# EAGLE library part STM32F405OGY6 (library circuit_tree)
IC
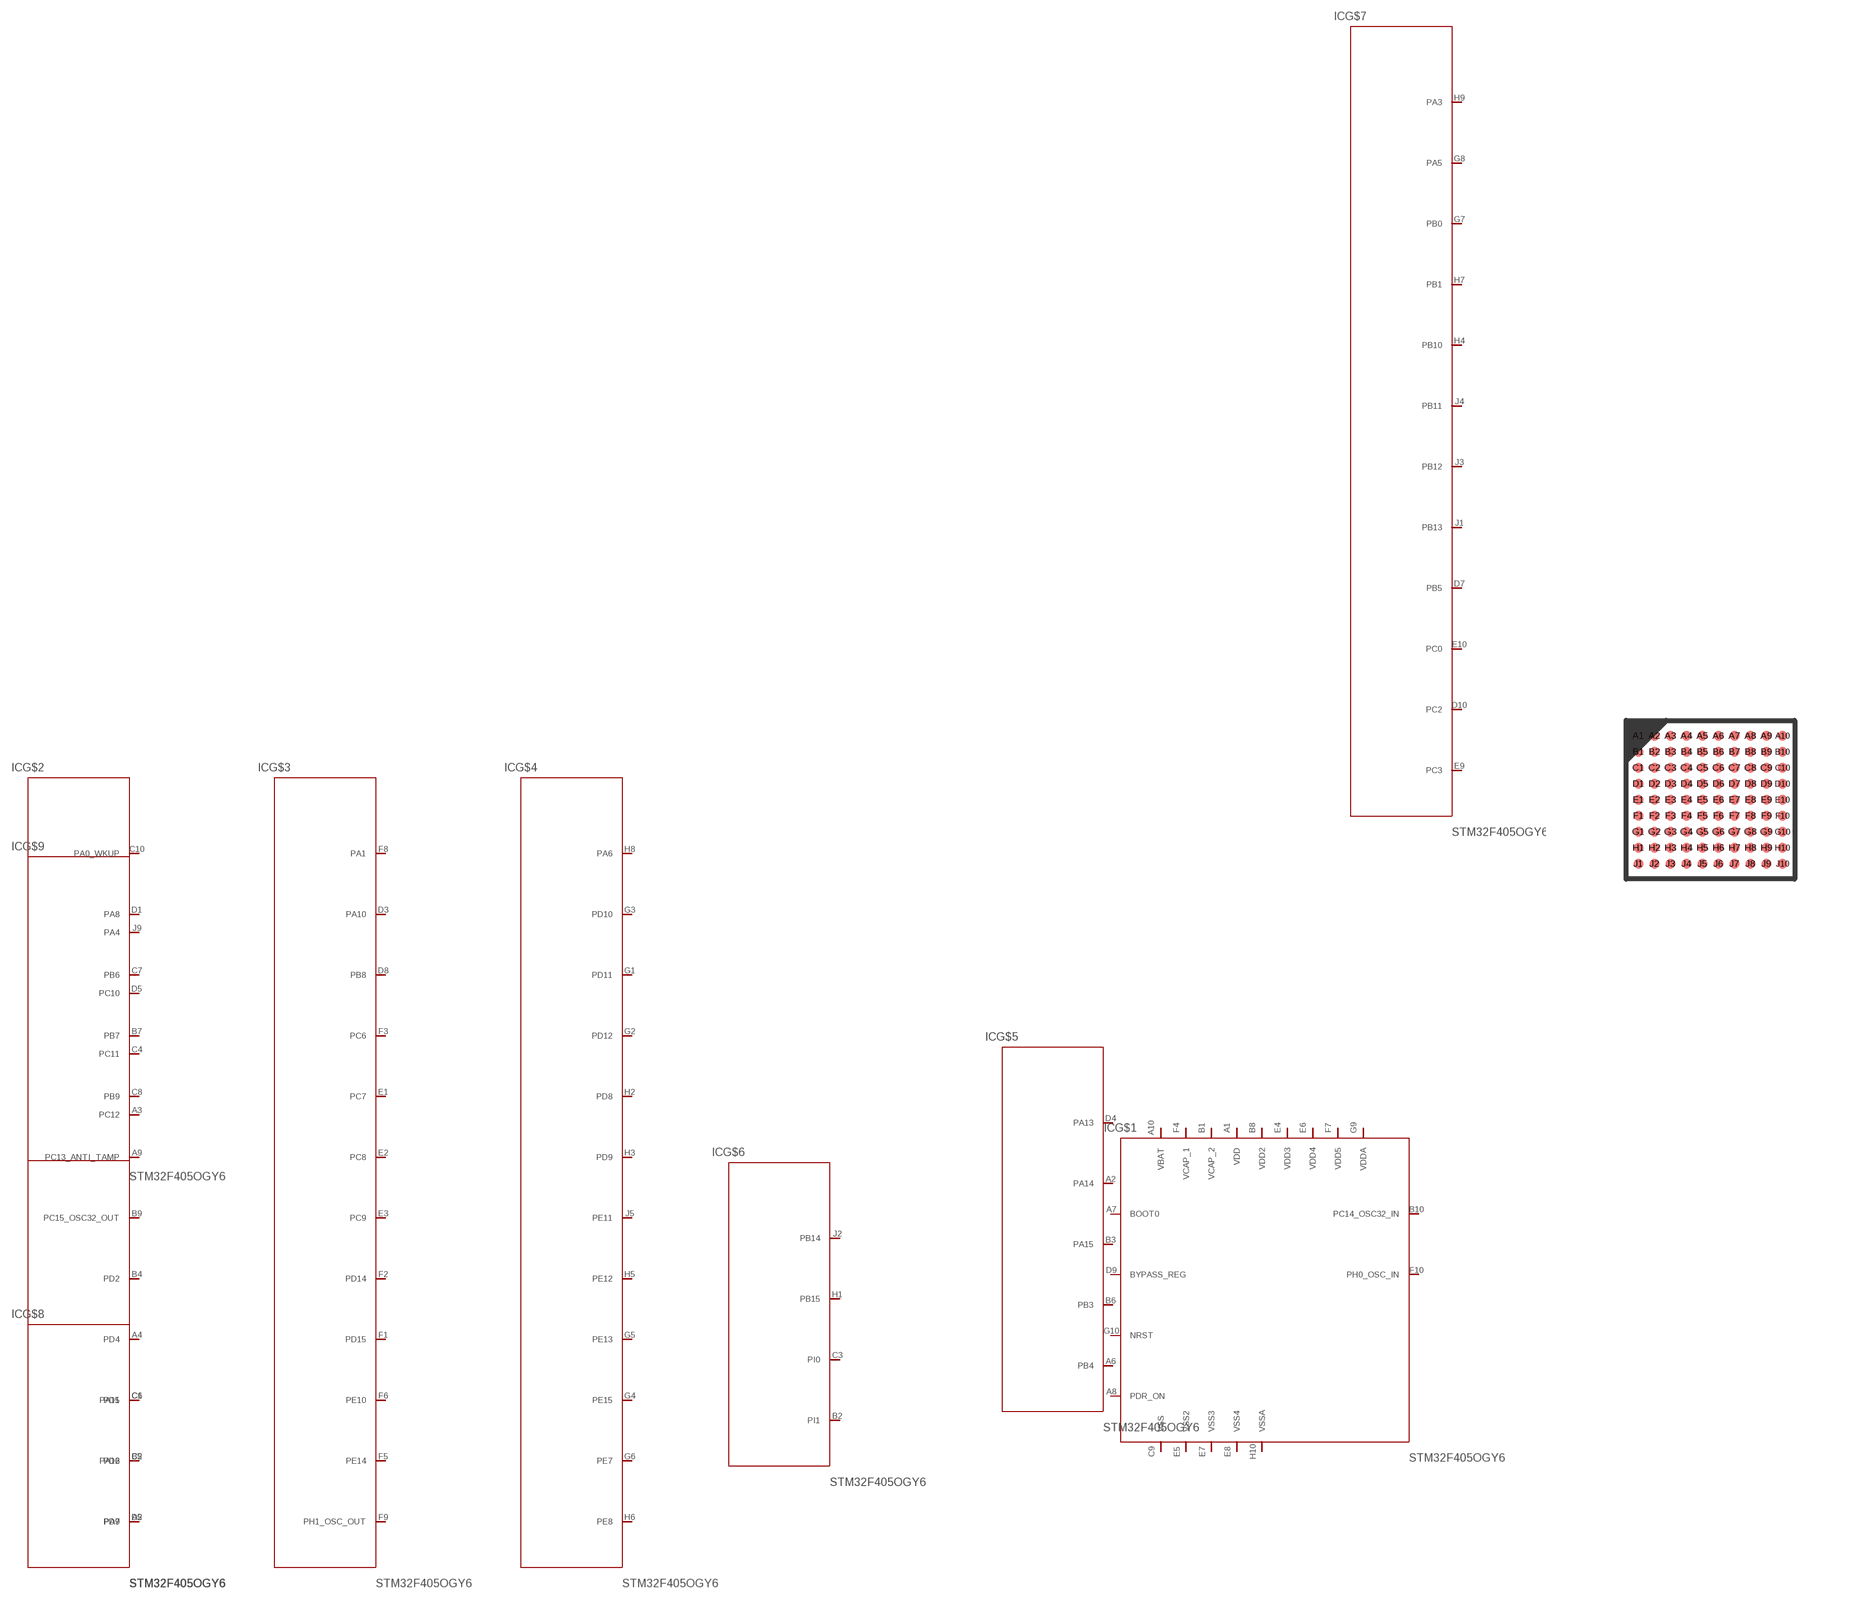
[diagram p9: symbol with the pads of WLCSP90; footprint WLCSP90]

Designator prefix IC; gates G$1=STM32F405OGY6 G$2=STM32F405OGY62 G$3=STM32F405OGY63 G$4=STM32F405OGY64 G$5=STM32F405OGY65 G$6=STM32F405OGY66 G$7=STM32F405OGY67 G$8=STM32F405OGY68 G$9=STM32F405OGY69

## STM32F405OGY6  [WLCSP90]
A1  G$1:VDD  pas
A2  G$5:PA14  pas
A3  G$9:PC12  pas
A4  G$2:PD4  pas
A5  G$2:PD7  pas
A6  G$5:PB4  pas
A7  G$1:BOOT0  pas
A8  G$1:PDR_ON  pas
A9  G$2:PC13_ANTI_TAMP  pas
A10  G$1:VBAT  pas
B1  G$1:VCAP_2  pas
B2  G$6:PI1  pas
B3  G$5:PA15  pas
B4  G$2:PD2  pas
B5  G$2:PD6  pas
B6  G$5:PB3  pas
B7  G$2:PB7  pas
B8  G$1:VDD2  pas
B9  G$2:PC15_OSC32_OUT  pas
B10  G$1:PC14_OSC32_IN  pas
C1  G$8:PA11  pas
C2  G$8:PA12  pas
C3  G$6:PI0  pas
C4  G$9:PC11  pas
C6  G$2:PD5  pas
C7  G$2:PB6  pas
C8  G$2:PB9  pas
C9  G$1:VSS  pas
C10  G$2:PA0_WKUP  pas
D1  G$2:PA8  pas
D2  G$8:PA9  pas
D3  G$3:PA10  pas
D4  G$5:PA13  pas
D5  G$9:PC10  pas
D7  G$7:PB5  pas
D8  G$3:PB8  pas
D9  G$1:BYPASS_REG  pas
D10  G$7:PC2  pas
E1  G$3:PC7  pas
E2  G$3:PC8  pas
E3  G$3:PC9  pas
E4  G$1:VDD3  pas
E5  G$1:VSS2  pas
E6  G$1:VDD4  pas
E7  G$1:VSS3  pas
E8  G$1:VSS4  pas
E9  G$7:PC3  pas
E10  G$7:PC0  pas
F1  G$3:PD15  pas
F2  G$3:PD14  pas
F3  G$3:PC6  pas
F4  G$1:VCAP_1  pas
F5  G$3:PE14  pas
F6  G$3:PE10  pas
F7  G$1:VDD5  pas
F8  G$3:PA1  pas
F9  G$3:PH1_OSC_OUT  pas
F10  G$1:PH0_OSC_IN  pas
G1  G$4:PD11  pas
G2  G$4:PD12  pas
G3  G$4:PD10  pas
G4  G$4:PE15  pas
G5  G$4:PE13  pas
G6  G$4:PE7  pas
G7  G$7:PB0  pas
G8  G$7:PA5  pas
G9  G$1:VDDA  pas
G10  G$1:NRST  pas
H1  G$6:PB15  pas
H2  G$4:PD8  pas
H3  G$4:PD9  pas
H4  G$7:PB10  pas
H5  G$4:PE12  pas
H6  G$4:PE8  pas
H7  G$7:PB1  pas
H8  G$4:PA6  pas
H9  G$7:PA3  pas
H10  G$1:VSSA  pas
J1  G$7:PB13  pas
J2  G$6:PB14  pas
J3  G$7:PB12  pas
J4  G$7:PB11  pas
J5  G$4:PE11  pas
J9  G$9:PA4  pas

## Footprint WLCSP90 (pad centres in mm)
WLCSP90 4.218 x 3.969 mm, 10 x 9-pin 0.4 mm pitch wafer-level chip-scale package
smd 0.25 x 0.25: A1 -1.8,1.6; A2 -1.4,1.6; A3 -1,1.6; A4 -0.6,1.6; A5 -0.2,1.6; A6 0.2,1.6; A7 0.6,1.6; A8 1,1.6; A9 1.4,1.6; A10 1.8,1.6; B1 -1.8,1.2; B2 -1.4,1.2; B3 -1,1.2; B4 -0.6,1.2; B5 -0.2,1.2; B6 0.2,1.2; B7 0.6,1.2; B8 1,1.2; B9 1.4,1.2; B10 1.8,1.2; C1 -1.8,0.8; C2 -1.4,0.8; C3 -1,0.8; C4 -0.6,0.8; C5 -0.2,0.8; C6 0.2,0.8; C7 0.6,0.8; C8 1,0.8; C9 1.4,0.8; C10 1.8,0.8; D1 -1.8,0.4; D2 -1.4,0.4; D3 -1,0.4; D4 -0.6,0.4; D5 -0.2,0.4; D6 0.2,0.4; D7 0.6,0.4; D8 1,0.4; D9 1.4,0.4; D10 1.8,0.4; E1 -1.8,0; E2 -1.4,0; E3 -1,0; E4 -0.6,0; E5 -0.2,0; E6 0.2,0; E7 0.6,0; E8 1,0; E9 1.4,0; E10 1.8,0; F1 -1.8,-0.4; F2 -1.4,-0.4; F3 -1,-0.4; F4 -0.6,-0.4; F5 -0.2,-0.4; F6 0.2,-0.4; F7 0.6,-0.4; F8 1,-0.4; F9 1.4,-0.4; F10 1.8,-0.4; G1 -1.8,-0.8; G2 -1.4,-0.8; G3 -1,-0.8; G4 -0.6,-0.8; G5 -0.2,-0.8; G6 0.2,-0.8; G7 0.6,-0.8; G8 1,-0.8; G9 1.4,-0.8; G10 1.8,-0.8; H1 -1.8,-1.2; H2 -1.4,-1.2; H3 -1,-1.2; H4 -0.6,-1.2; H5 -0.2,-1.2; H6 0.2,-1.2; H7 0.6,-1.2; H8 1,-1.2; H9 1.4,-1.2; H10 1.8,-1.2; J1 -1.8,-1.6; J2 -1.4,-1.6; J3 -1,-1.6; J4 -0.6,-1.6; J5 -0.2,-1.6; J6 0.2,-1.6; J7 0.6,-1.6; J8 1,-1.6; J9 1.4,-1.6; J10 1.8,-1.6